# Altium footprint library PCB1.PcbLib: 8 footprints
Each footprint in its own frame and in the unit in brackets; x right, y up, seen from the top. Pads: shape width x height; smd on the part's side, far side on the other; paste and mask are expansions set on the pad; w line width, h text height; cw(c..) or ccw(c..) is an arc to the next point about the centre after c.
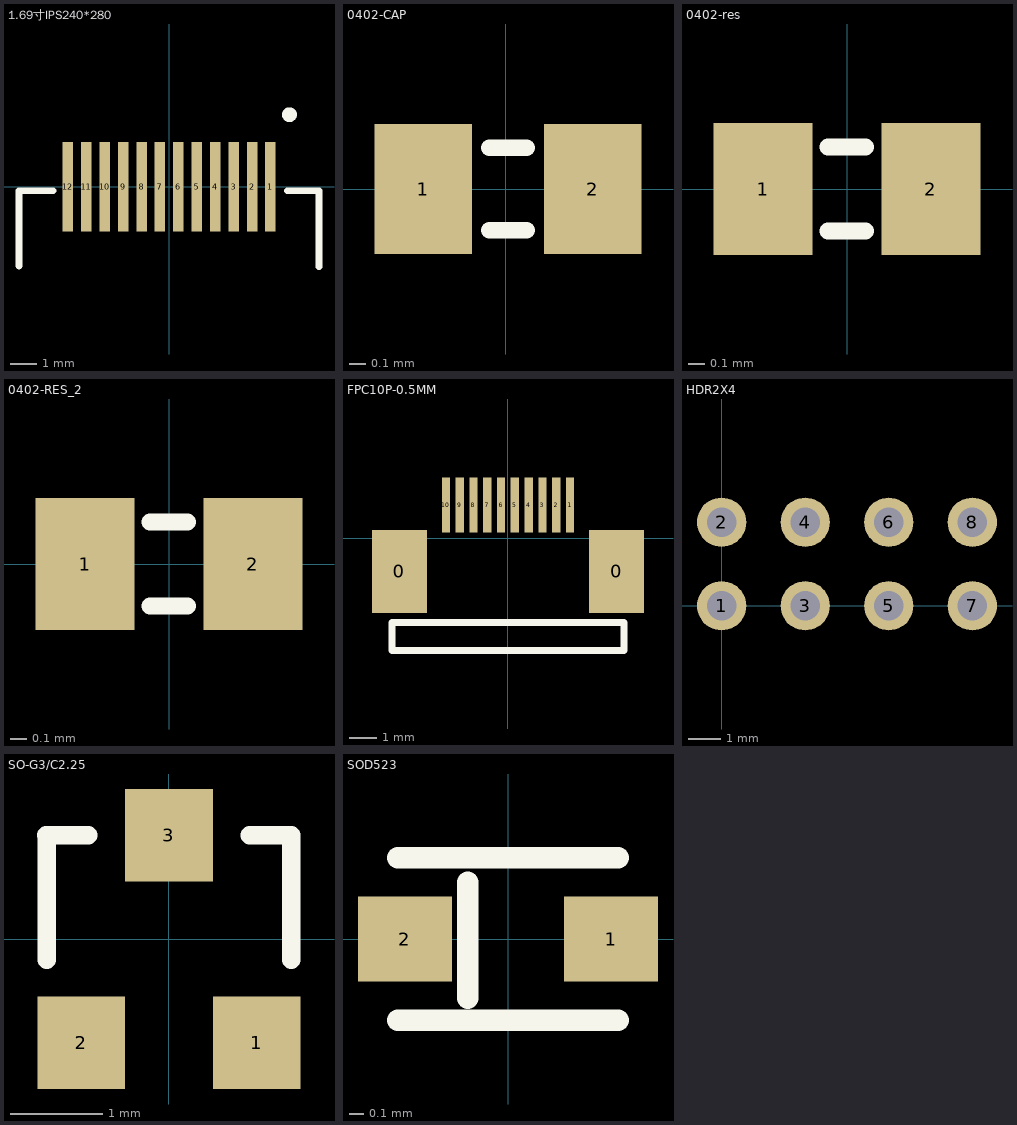
[diagram p0: the footprints below, top view; thin cyan lines are the x and y axes]

## 1.69寸IPS240*280 [mm]
height 0.7
pads (12):
  rect 0.4x3.4 smd: 1(3.85,0) 2(3.15,0) 3(2.45,0) 4(1.75,0) 5(1.05,0) 6(0.35,0) 7(-0.35,0) 8(-1.05,0) 9(-1.75,0) 10(-2.45,0) 11(-3.15,0) 12(-3.85,0)
Top Overlay:
  circle w0.3: c4.572,2.743 r0.131
  lines w0.254: -5.706,-3.01 -5.706,-0.152 -4.412,-0.152 ; 4.49,-0.152 5.694,-0.152 ; 5.694,-3.035 5.694,-0.178

## 0402-CAP [mm]
height 0.5
pads (2):
  rect 0.6x0.8 smd: 1(-0.508,0) 2(0.533,0)
Top Overlay:
  lines w0.102: -0.102,-0.254 0.127,-0.254 ; -0.102,0.254 0.127,0.254
3D body "CAPCP1005X05N.step": height 0.5, standoff 0, extent -0.525,-0.275 0.525,0.275

## 0402-res [mm]
height 0.5
pads (2):
  rect 0.6x0.8 smd: 1(-0.508,0) 2(0.508,0)
Top Overlay:
  lines w0.102: -0.117,-0.254 0.112,-0.254 ; -0.117,0.254 0.112,0.254
3D body "RESC1005X05N.step": height 0.5, standoff 0, extent -0.527,-0.275 0.523,0.275

## 0402-RES_2 [mm]
pads (2):
  rect 0.6x0.8 smd: 1(-0.508,0) 2(0.508,0)
Top Overlay:
  lines w0.102: -0.117,-0.254 0.112,-0.254 ; -0.117,0.254 0.112,0.254
3D body "RESC1005X05N.step": height 0.5, standoff 0, extent -0.527,-0.275 0.523,0.275

## FPC10P-0.5MM [mm]
pads (12):
  rect 2x3 smd: 0(-3.936,-1.202) 0(3.936,-1.202)
  rect 0.3x2 smd: 1(2.25,1.202) 2(1.75,1.202) 3(1.25,1.202) 4(0.75,1.202) 5(0.25,1.202) 6(-0.25,1.202) 7(-0.75,1.202) 8(-1.25,1.202) 9(-1.75,1.202) 10(-2.25,1.202)
Top Overlay:
  lines w0.254: -4.201,-4.065 -4.201,-3.049 4.199,-3.049 4.199,-4.065 -4.201,-4.065
3D body "FPC-10P0.5mm.stp": height 2.1, standoff 0.1, extent -4.687,-4.175 4.713,1.725

## HDR2X4 [mm]
height 0.7
pads (8):
  round 1.5 hole 0.9: 1(0,0) 2(0,2.54) 3(2.54,0) 4(2.54,2.54) 5(5.08,0) 6(5.08,2.54) 7(7.62,0) 8(7.62,2.54)

## SO-G3/C2.25 [mm]
height 1.2
pads (3):
  rect 0.95x1 smd: 1(0.95,-1.125) 2(-0.95,-1.125) 3(0,1.125)
Top Overlay:
  lines w0.2: -1.328,1.125 -0.875,1.125 ; -1.325,-0.225 -1.325,1.125 ; 0.875,1.125 1.325,1.125 1.325,-0.225
3D body "SOT-23.STEP": height 1.11, standoff 0.01, extent -1.502,-1.26 1.498,1.24

## SOD523 [mil]
pads (2):
  rect 26x23.62 smd paste+0 mask+0: 1(28.5,0) 2(-28.5,0)
Top Overlay:
  lines w6: -30.5,-22.5 30.5,-22.5 ; -30.5,22.5 30.5,22.5 ; -11.11,-16.31 -11.11,15.69
3D body "ZDO_SOD-523_STM.step": height 28.27, standoff 0, extent -33.51,-17.46 33.5,17.5